# EAGLE library part MHBPV3-LCD-4BIT (library lcd)
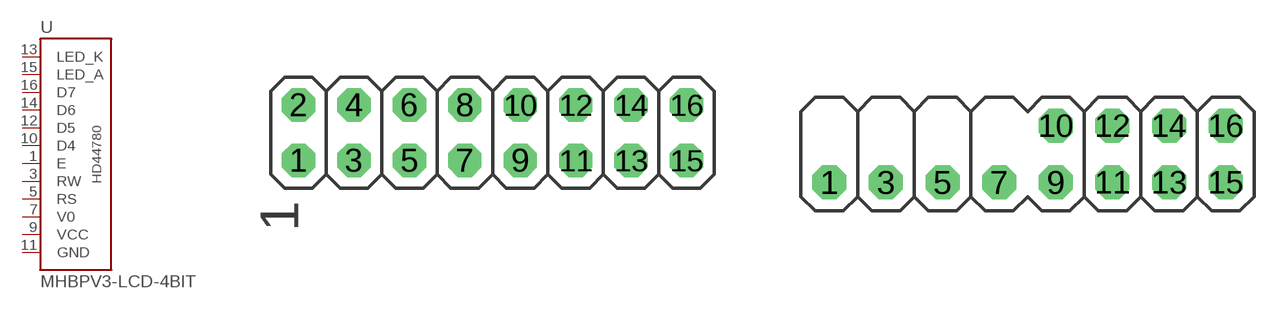
[diagram p5: symbol with the pads of 2X08; footprints 2X08, MBHP-LCD-4BIT]

Designator prefix -

## MHBPV3-LCD-4BIT-2X08  [2X08]
1  E  pas
3  RW  pas
5  RS  pas
7  V0  pas
9  VCC  pas
10  D4  pas
11  GND  pas
12  D5  pas
13  LED_K  pas
14  D6  pas
15  LED_A  pas
16  D7  pas

## MHBPV3-LCD-4BIT-MHBP-4BIT  [MBHP-LCD-4BIT]
Pads as for 2X08

## Footprint 2X08 (pad centres in mm)
PIN HEADER
drill 1.016 octagon: 1 -8.89,-1.27; 2 -8.89,1.27; 3 -6.35,-1.27; 4 -6.35,1.27; 5 -3.81,-1.27; 6 -3.81,1.27; 7 -1.27,-1.27; 8 -1.27,1.27; 9 1.27,-1.27; 10 1.27,1.27; 11 3.81,-1.27; 12 3.81,1.27; 13 6.35,-1.27; 14 6.35,1.27; 15 8.89,-1.27; 16 8.89,1.27

## Footprint MBHP-LCD-4BIT (pad centres in mm)
drill 1.016 octagon: 1 -8.89,-1.27; 3 -6.35,-1.27; 5 -3.81,-1.27; 7 -1.27,-1.27; 9 1.27,-1.27; 10 1.27,1.27; 11 3.81,-1.27; 12 3.81,1.27; 13 6.35,-1.27; 14 6.35,1.27; 15 8.89,-1.27; 16 8.89,1.27